# EAGLE library part M06 (library jt_parts)
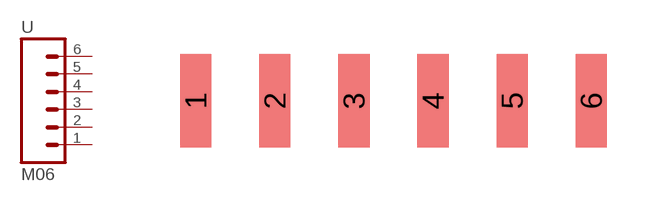
[diagram p5: symbol with the pads of M06-SMD; footprint M06-SMD]

Designator prefix -

## M06  [M06-SMD]
1  1  pas
2  2  pas
3  3  pas
4  4  pas
5  5  pas
6  6  pas

## Footprint M06-SMD (pad centres in mm)
smd 1 x 3: 1 -6.35,-0.08; 2 -3.81,-0.08; 3 -1.27,-0.08; 4 1.27,-0.08; 5 3.81,-0.08; 6 6.35,-0.08